# Altium schematic symbol library ACS712.Schlib: 1 symbol
Pins are listed as number, name and electrical type; pins without a type are passive.

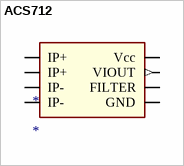
[diagram p0: symbol ACS712]

## ACS712
designator *
Current Sensor 30A
pins: 1 IP+ (power), 2 IP+, 3 IP-, 4 IP- (power), 5 GND (power), 6 FILTER, 7 VIOUT (out), 8 Vcc (power)